# EAGLE library part 87264-50 (library untitled)
RECEPTACAL
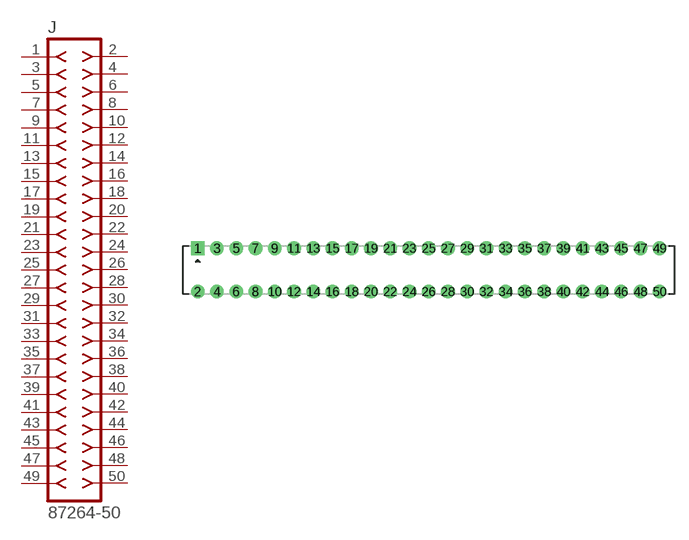
[diagram p226: symbol with the pads of 87264-50; footprint 87264-50]

Designator prefix J

## 87264-50  [87264-50]
1  1  pas
2  2  pas
3  3  pas
4  4  pas
5  5  pas
6  6  pas
7  7  pas
8  8  pas
9  9  pas
10  10  pas
11  11  pas
12  12  pas
13  13  pas
14  14  pas
15  15  pas
16  16  pas
17  17  pas
18  18  pas
19  19  pas
20  20  pas
21  21  pas
22  22  pas
23  23  pas
24  24  pas
25  25  pas
26  26  pas
27  27  pas
28  28  pas
29  29  pas
30  30  pas
31  31  pas
32  32  pas
33  33  pas
34  34  pas
35  35  pas
36  36  pas
37  37  pas
38  38  pas
39  39  pas
40  40  pas
41  41  pas
42  42  pas
43  43  pas
44  44  pas
45  45  pas
46  46  pas
47  47  pas
48  48  pas
49  49  pas
50  50  pas

## Footprint 87264-50 (pad centres in mm)
RECEPTACAL Dual Row, Side Entry
drill 0.914 square: 1 -24,2.25
drill 0.914 round: 2 -24,-2.25; 3 -22,2.25; 4 -22,-2.25; 5 -20,2.25; 6 -20,-2.25; 7 -18,2.25; 8 -18,-2.25; 9 -16,2.25; 10 -16,-2.25; 11 -14,2.25; 12 -14,-2.25; 13 -12,2.25; 14 -12,-2.25; 15 -10,2.25; 16 -10,-2.25; 17 -8,2.25; 18 -8,-2.25; 19 -6,2.25; 20 -6,-2.25; 21 -4,2.25; 22 -4,-2.25; 23 -2,2.25; 24 -2,-2.25; 25 0,2.25; 26 0,-2.25; 27 2,2.25; 28 2,-2.25; 29 4,2.25; 30 4,-2.25; 31 6,2.25; 32 6,-2.25; 33 8,2.25; 34 8,-2.25; 35 10,2.25; 36 10,-2.25; 37 12,2.25; 38 12,-2.25; 39 14,2.25; 40 14,-2.25; 41 16,2.25; 42 16,-2.25; 43 18,2.25; 44 18,-2.25; 45 20,2.25; 46 20,-2.25; 47 22,2.25; 48 22,-2.25; 49 24,2.25; 50 24,-2.25